# EAGLE library part RJ45-1000BASE (library ds_con)
1 Port RJ45 Through Hole 10/100/1000 Base-T, AutoMDIX
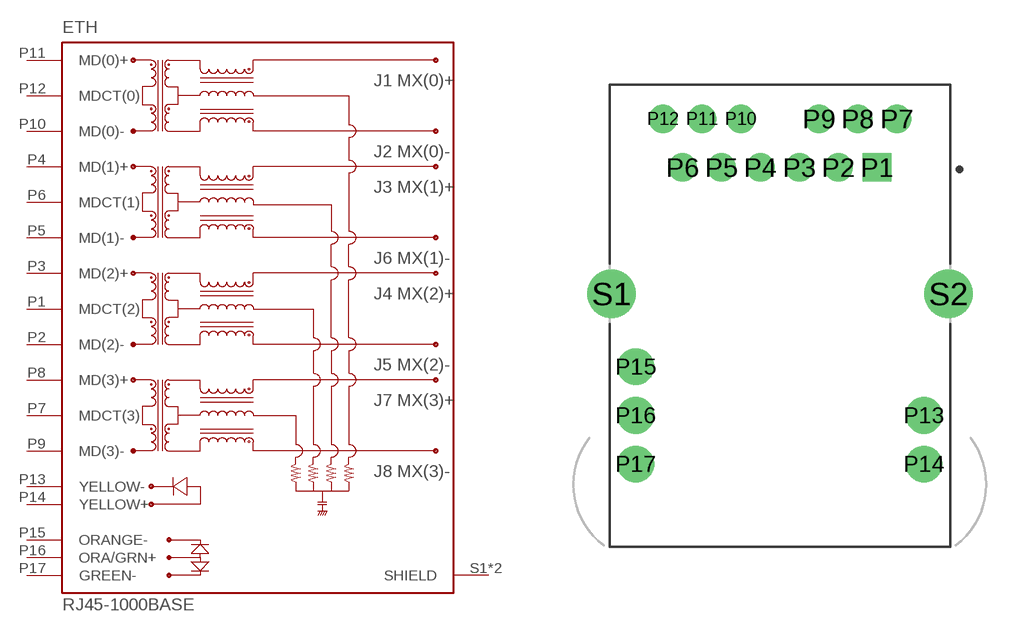
[diagram p33: symbol with the pads of RJ45-1000BASE; footprint RJ45-1000BASE]

Designator prefix ETH

## RJ45-1000BASE (DATASHEET: https://www.te.com/usa-en/product-6-2301994-1.datasheet.pdf; DESCRIPTION: 1 Port RJ45 Through Hole 10/100/1000 Base-T, AutoMDIX; LCSC_PART: C5329475; MPN: 6-2301994-1; ROHS: YES; VALUE: RJ45 1000Base)  [RJ45-1000BASE]
P1  MDCT(2)  pas
P2  MD(2)-  pas
P3  MD(2)+  pas
P4  MD(1)+  pas
P5  MD(1)-  pas
P6  MDCT(1)  pas
P7  MDCT(3)  pas
P8  MD(3)+  pas
P9  MD(3)-  pas
P10  MD(0)-  pas
P11  MD(0)+  pas
P12  MDCT(0)  pas
P13  YELLOW-  pas
P14  YELLOW+  pas
P15  ORANGE-  pas
P16  ORA/GRN+  pas
P17  GREEN-  pas
S1  SHIELD  pas
S2  SHIELD  pas

## Footprint RJ45-1000BASE (pad centres in mm)
drill 0.98 square: P1 5.075,7.87
drill 0.98: P2 3.045,7.87; P3 1.015,7.87; P4 -1.015,7.87; P5 -3.045,7.87; P6 -5.075,7.87; P7 6.1,10.41; P8 4.07,10.41; P9 2.04,10.41; P10 -2.04,10.41; P11 -4.07,10.41; P12 -6.1,10.41
drill 1.28: P13 7.52,-5.08; P14 7.52,-7.62; P15 -7.52,-2.54; P16 -7.52,-5.08; P17 -7.52,-7.62
drill 1.68: S1 -8.79,1.27; S2 8.79,1.27